# Altium footprint library DEM8045C.PcbLib: 1 footprints
Each footprint in its own frame and in the unit in brackets; x right, y up, seen from the top. Pads: shape width x height; smd on the part's side, far side on the other; paste and mask are expansions set on the pad; w line width, h text height; cw(c..) or ccw(c..) is an arc to the next point about the centre after c.
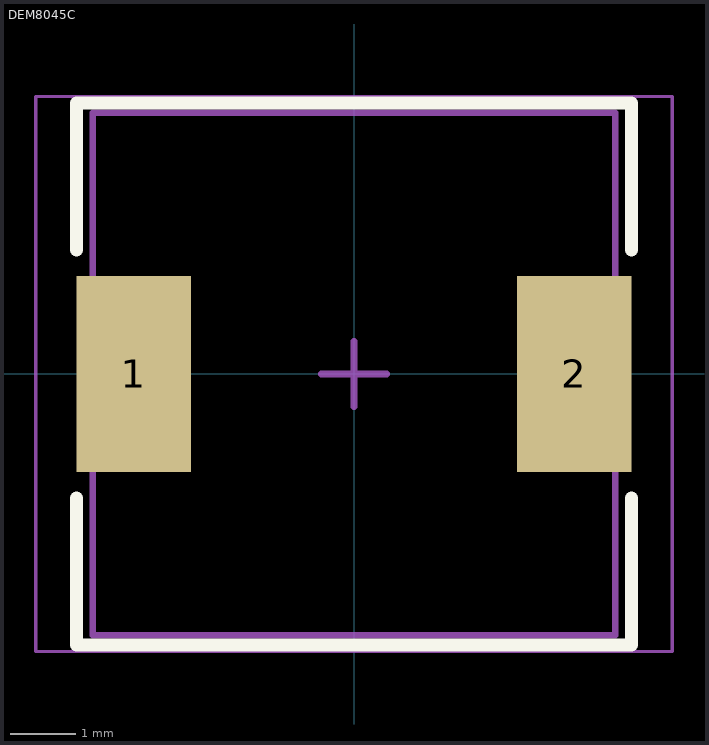
[diagram p0: the footprint, top view; thin cyan lines are the x and y axes]

## DEM8045C [mm] "some inductor lol"
height 4.5
pads (2):
  rect 1.75x3 smd: 1(-3.375,0) 2(3.375,0)
Top Overlay:
  lines w0.2: -4.25,-1.9 -4.25,-4.15 4.25,-4.15 4.25,-1.9 ; -4.25,1.9 -4.25,4.15 4.25,4.15 4.25,1.9
Mechanical 13:
  lines w0.1: -4,-4 -4,4 4,4 4,-4 -4,-4
Mechanical 15:
  lines w0.05: -4.875,-4.25 -4.875,4.25 4.875,4.25 4.875,-4.25 -4.875,-4.25
  lines w0.1: -0.5,0 0.5,0 ; 0,-0.5 0,0.5
3D body: height 4.5, standoff 0, extent -4,-4 4,4